# Altium footprint library PrISUm-Discrete.PcbLib: 31 footprints (part 1 of 2)
Each footprint in its own frame and in the unit in brackets; x right, y up, seen from the top. Pads: shape width x height; smd on the part's side, far side on the other; paste and mask are expansions set on the pad; w line width, h text height; cw(c..) or ccw(c..) is an arc to the next point about the centre after c.
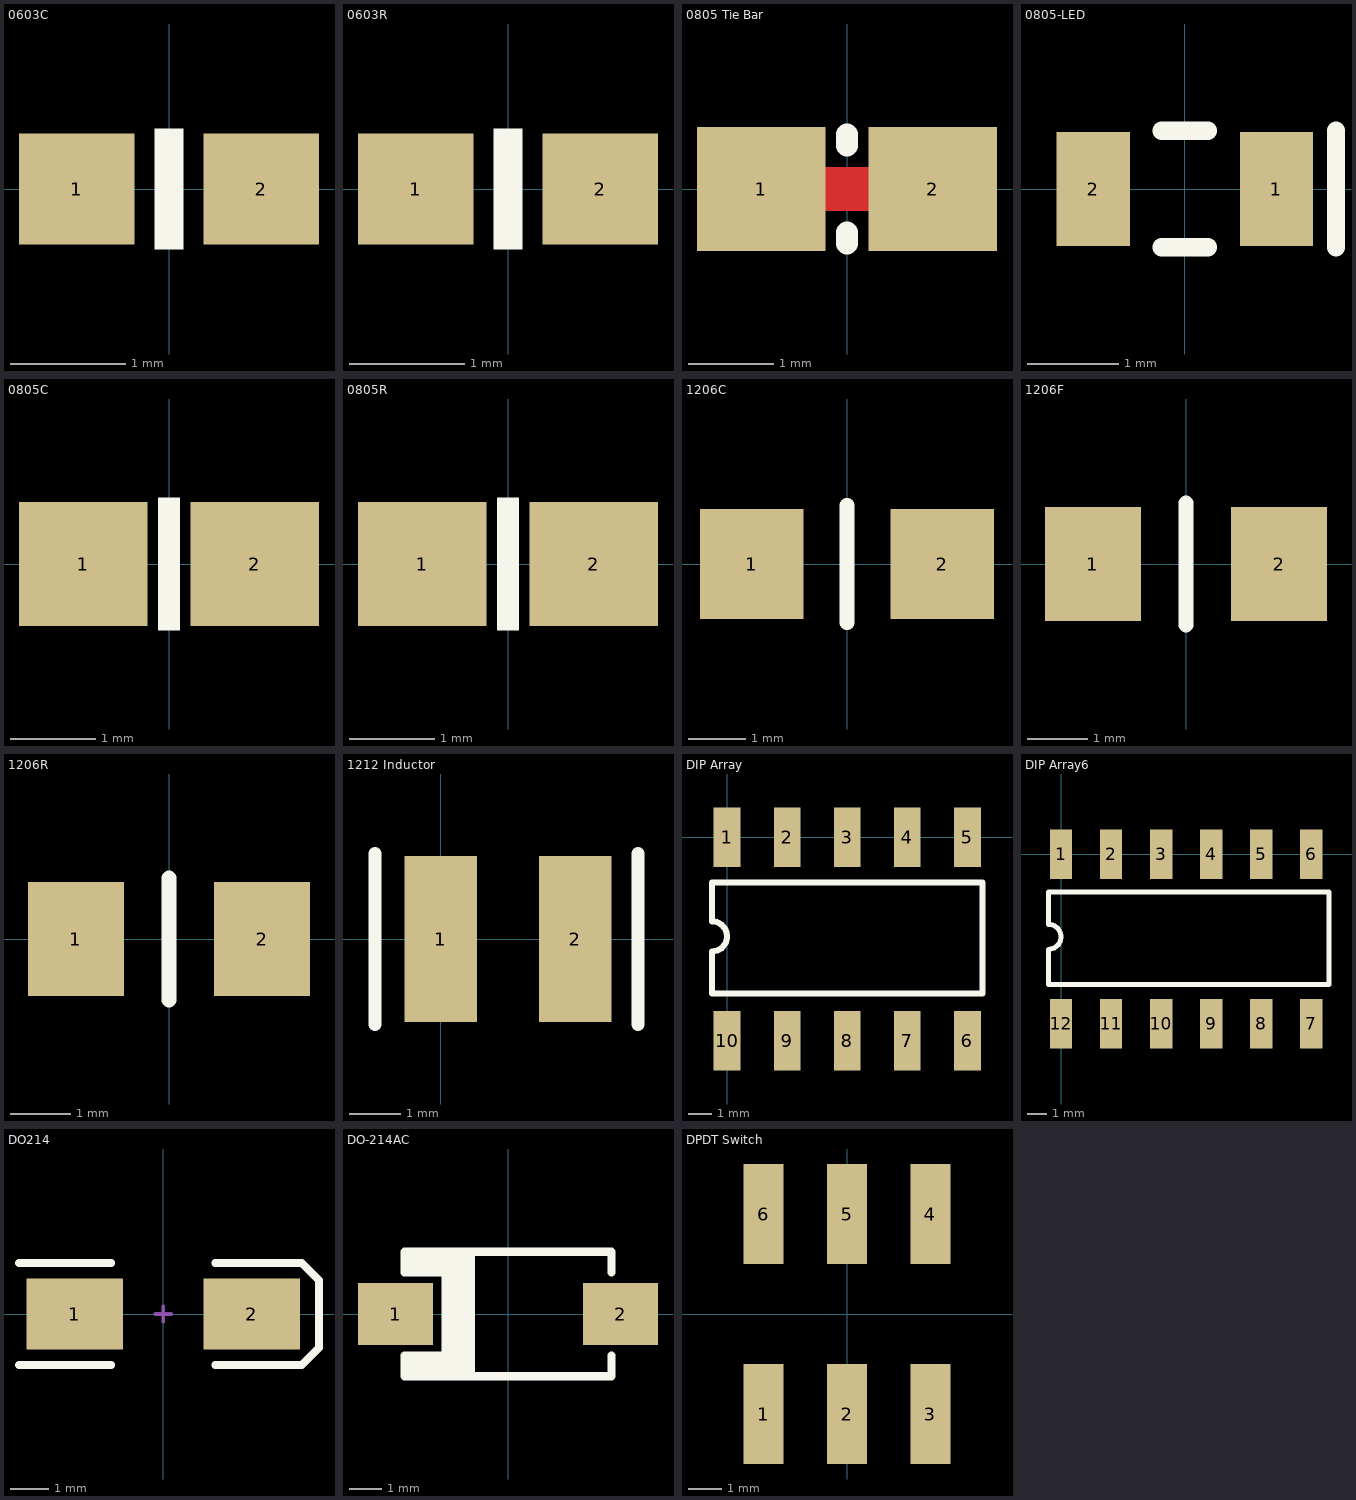
[diagram p0: the footprints below, top view; thin cyan lines are the x and y axes]

## 0603C [mm] "0603"
height 0.96
pads (2):
  rect 1x0.96 smd mask+0.064: 1(-0.8,0) 2(0.8,0)
Top Overlay:
  rectangle: -0.127,-0.525 0.127,0.525
3D body "0603 capacitor.stp": height 0.8, standoff -0.01, extent -0.8,-0.405 0.8,0.405

## 0603R [mm] "0603"
height 0.96
pads (2):
  rect 1x0.96 smd mask+0.064: 1(-0.8,0) 2(0.8,0)
Top Overlay:
  rectangle: -0.127,-0.525 0.127,0.525
3D body "RESC-0603.stp": height 0.55, standoff 0, extent -0.85,-0.381 0.85,0.519

## 0805 Tie Bar [mm] "0805"
height 1.35
pads (2):
  rect 1.5x1.45 smd mask+0.064: 1(-1,0) 2(1,0)
Top Layer:
  lines w0.508: -1,0 1,0
Top Overlay:
  lines w0.254: 0,-0.635 0,-0.508 ; 0,0.508 0,0.635
Top Solder:
  lines w0.381: -1.143,0 1.016,0

## 0805-LED [mm]
pads (2):
  rect 0.8x1.25 smd: 1(1,0) 2(-1,0)
Top Overlay:
  lines w0.2: -0.254,-0.635 0.254,-0.635 ; -0.254,0.635 0.254,0.635 ; 1.651,-0.635 1.651,0.635
3D body "BL-LS0805UWC.STEP": height 0.8, standoff 0, extent -0.9,-0.635 0.9,0.615

## 0805C [mm] "0805"
height 1.35
pads (2):
  rect 1.5x1.45 smd mask+0.064: 1(-1,0) 2(1,0)
Top Overlay:
  rectangle: -0.127,-0.775 0.127,0.775
3D body "0805 capacitor.stp": height 1.25, standoff 0, extent -1,-0.625 1.01,0.625

## 0805R [mm] "0805"
height 1.35
pads (2):
  rect 1.5x1.45 smd mask+0.064: 1(-1,0) 2(1,0)
Top Overlay:
  rectangle: -0.127,-0.775 0.127,0.775
3D body "RESC-0805.stp": height 0.6, standoff 0, extent -1.039,-0.675 1.061,0.675

## 1206C [mm]
pads (2):
  rect 1.8x1.9 smd: 1(-1.65,0) 2(1.65,0)
Top Overlay:
  lines w0.254: 0,-1.016 0,1.016
3D body "CAPC-1206-T0.95-BN.stp": height 0.95, standoff 0, extent -1.699,-0.875 1.651,0.875

## 1206F [mm]
pads (2):
  rect 1.6x1.9 smd: 1(-1.55,0) 2(1.55,0)
Top Overlay:
  lines w0.254: 0,-1.016 0,1.016
3D body "fuse.stp": height 0.4, standoff 0, extent -1.726,-0.888 1.524,0.762

## 1206R [mm]
pads (2):
  rect 1.6x1.9 smd: 1(-1.55,0) 2(1.55,0)
Top Overlay:
  lines w0.254: 0,-1.016 0,1.016
3D body "1R0_1206_E24.stp": height 0.57, standoff 0.01, extent -1.55,-0.772 1.55,0.78

## 1212 Inductor [mm]
pads (2):
  rect 1.4x3.2 smd: 1(0,0) 2(2.6,0)
Top Overlay:
  lines w0.254: -1.27,-1.651 -1.27,1.651 ; 3.81,-1.651 3.81,1.651

## DIP Array [mm] "10 Pad .1\" DIP Switch Array"
pads (10):
  rect 1.13x2.5 smd: 1(0,0) 2(2.54,0) 3(5.08,0) 4(7.62,0) 5(10.16,0) 6(10.16,-8.6) 7(7.62,-8.6) 8(5.08,-8.6) 9(2.54,-8.6) 10(0,-8.6)
Top Overlay:
  lines w0.254: -0.635,-6.604 10.795,-6.604 10.795,-1.905 -0.635,-1.905 -0.635,-3.556 cw(c-0.635,-4.191) -0.635,-4.826 -0.635,-6.604
3D body "DIP Array.stp": height 4.38, standoff 0.08, extent -2.005,-9.146 12.165,0.764

## DIP Array6 [mm] "10 Pad .1\" DIP Switch Array"
pads (12):
  rect 1.13x2.5 smd: 1(0,0) 2(2.54,0) 3(5.08,0) 4(7.62,0) 5(10.16,0) 6(12.7,0) 7(12.7,-8.6) 8(10.16,-8.6) 9(7.62,-8.6) 10(5.08,-8.6) 11(2.54,-8.6) 12(0,-8.6)
Top Overlay:
  lines w0.254: -0.635,-6.604 13.589,-6.604 13.589,-1.905 -0.635,-1.905 -0.635,-3.556 cw(c-0.635,-4.191) -0.635,-4.826 -0.635,-6.604
3D body "DIP Array.stp": height 4.38, standoff 0.08, extent -2.005,-9.146 12.165,0.764

## DO214 [mm] "DO-214-AC/SMA; 2 C-Bend Leads; Body 5.3 x 2.6 mm, inc. leads (LxW)"
height 2.3
pads (2):
  rect 2.5x1.85 smd: 1(-2.3,0) 2(2.3,0)
Top Overlay:
  lines w0.2: -3.75,-1.325 -1.35,-1.325 ; -3.75,1.325 -1.35,1.325 ; 1.35,-1.325 3.6,-1.325 4.05,-0.875 4.05,0.875 3.6,1.325 1.35,1.325
Mechanical 1:
  lines w0.1: -0.2,0 0.2,0 ; 0,-0.2 0,0.2
3D body "Diode SMA.stp": height 2.41, standoff 0, extent -2.74,-1.46 2.54,1.46

## DO-214AC [mm]
height 2.3
pads (2):
  rect 2.3x1.9 smd: 1(-3.45,0) 2(3.45,0)
Top Overlay:
  lines w0.254: -3.175,1.651 -1.905,1.651 ; -1.905,-1.651 -3.175,-1.651 -3.175,-1.397 -1.905,-1.397 -1.905,-1.27 ; -1.905,1.905 -1.905,-1.905 -1.651,-1.905 -1.651,1.905 -1.397,1.905 -1.397,-1.905 -1.143,-1.905 -1.143,1.905 ; -1.778,1.905 -1.778,1.524 -3.175,1.524 -3.175,1.27 ; 3.175,-1.27 3.175,-1.905 -3.175,-1.905 -3.175,-1.27 -1.905,-1.27 ; 3.175,1.27 3.175,1.905 -3.175,1.905 -3.175,1.27 ; -3.175,1.27 -1.905,1.27 -1.905,-1.27
3D body "Diode SMA.stp": height 2.41, standoff 0, extent -2.54,-1.587 2.74,1.333

## DO-219AB Diode [mm]
height 1.1

## DPDT Switch [mm]
height 5.5
pads (6):
  rect 1.2x3 smd: 1(-2.5,-3) 2(0,-3) 3(2.5,-3) 4(2.5,3) 5(0,3) 6(-2.5,3)
3D body "DPDT Switch.stp": height 5.5, standoff 0, extent -4.25,-2.5 4.25,2.5